# Altium footprint library SOL-20.PcbLib: 1 footprints
Each footprint in its own frame and in the unit in brackets; x right, y up, seen from the top. Pads: shape width x height; smd on the part's side, far side on the other; paste and mask are expansions set on the pad; w line width, h text height; cw(c..) or ccw(c..) is an arc to the next point about the centre after c.
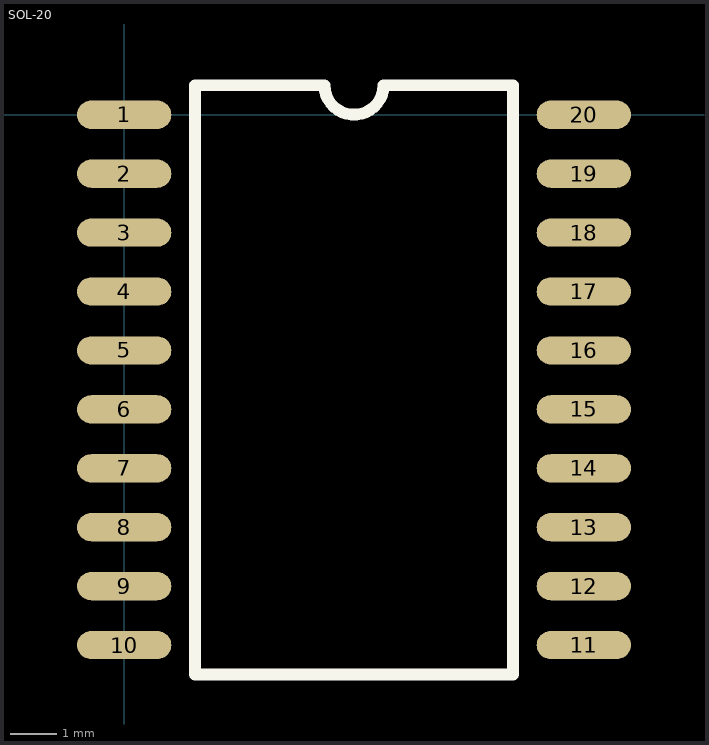
[diagram p0: the footprint, top view; thin cyan lines are the x and y axes]

## SOL-20 [mil]
pads (20):
  oval 80x24 smd: 1(0,0) 2(0,-50) 3(0,-100) 4(0,-150) 5(0,-200) 6(0,-250) 7(0,-300) 8(0,-350) 9(0,-400) 10(0,-450) 11(390,-450) 12(390,-400) 13(390,-350) 14(390,-300) 15(390,-250) 16(390,-200) 17(390,-150) 18(390,-100) 19(390,-50) 20(390,0)
TopOverlay:
  lines w10: 60,-475 330,-475 330,25 220,25 cw(c195,25) 170,25 60,25 60,-475
Mechanical4:
  text ".105" at 0,0 h1
  text ".065" at 0,-0.48 h1